# Altium schematic symbol library TPS62203DBVR.Schlib: 1 symbol
Pins are listed as number, name and electrical type; pins without a type are passive.

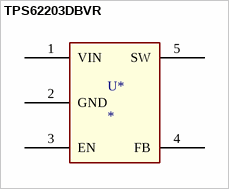
[diagram p0: symbol TPS62203DBVR]

## TPS62203DBVR
designator U*
300mA 6 Vin - 3.3 Vout SOT-23-5 DC-DC Converters ROHS; ComponentLink1Description: LCSC - Texas Instruments TPS62203DBVR; ComponentLink1URL: https://lcsc.com/product-detail/DC-DC-Converters_Texas-Instruments-TPS62203DBVR_C9051.html; JLCPCB Part Type: Extended; LCSC Part #: C9051
footprint SOT95P270X145-5N (SOT, 0.95mm Pitch; 5 Pin,1.55mm W X 2.90mm L X 1.45mm H body, IPC Medium Density)
pins: 1 VIN, 2 GND, 3 EN, 4 FB, 5 SW